# Altium footprint library Diode_SMD.PcbLib: 76 footprints (part 4 of 5)
Each footprint in its own frame and in the unit in brackets; x right, y up, seen from the top. Pads: shape width x height; smd on the part's side, far side on the other; paste and mask are expansions set on the pad; w line width, h text height; cw(c..) or ccw(c..) is an arc to the next point about the centre after c.
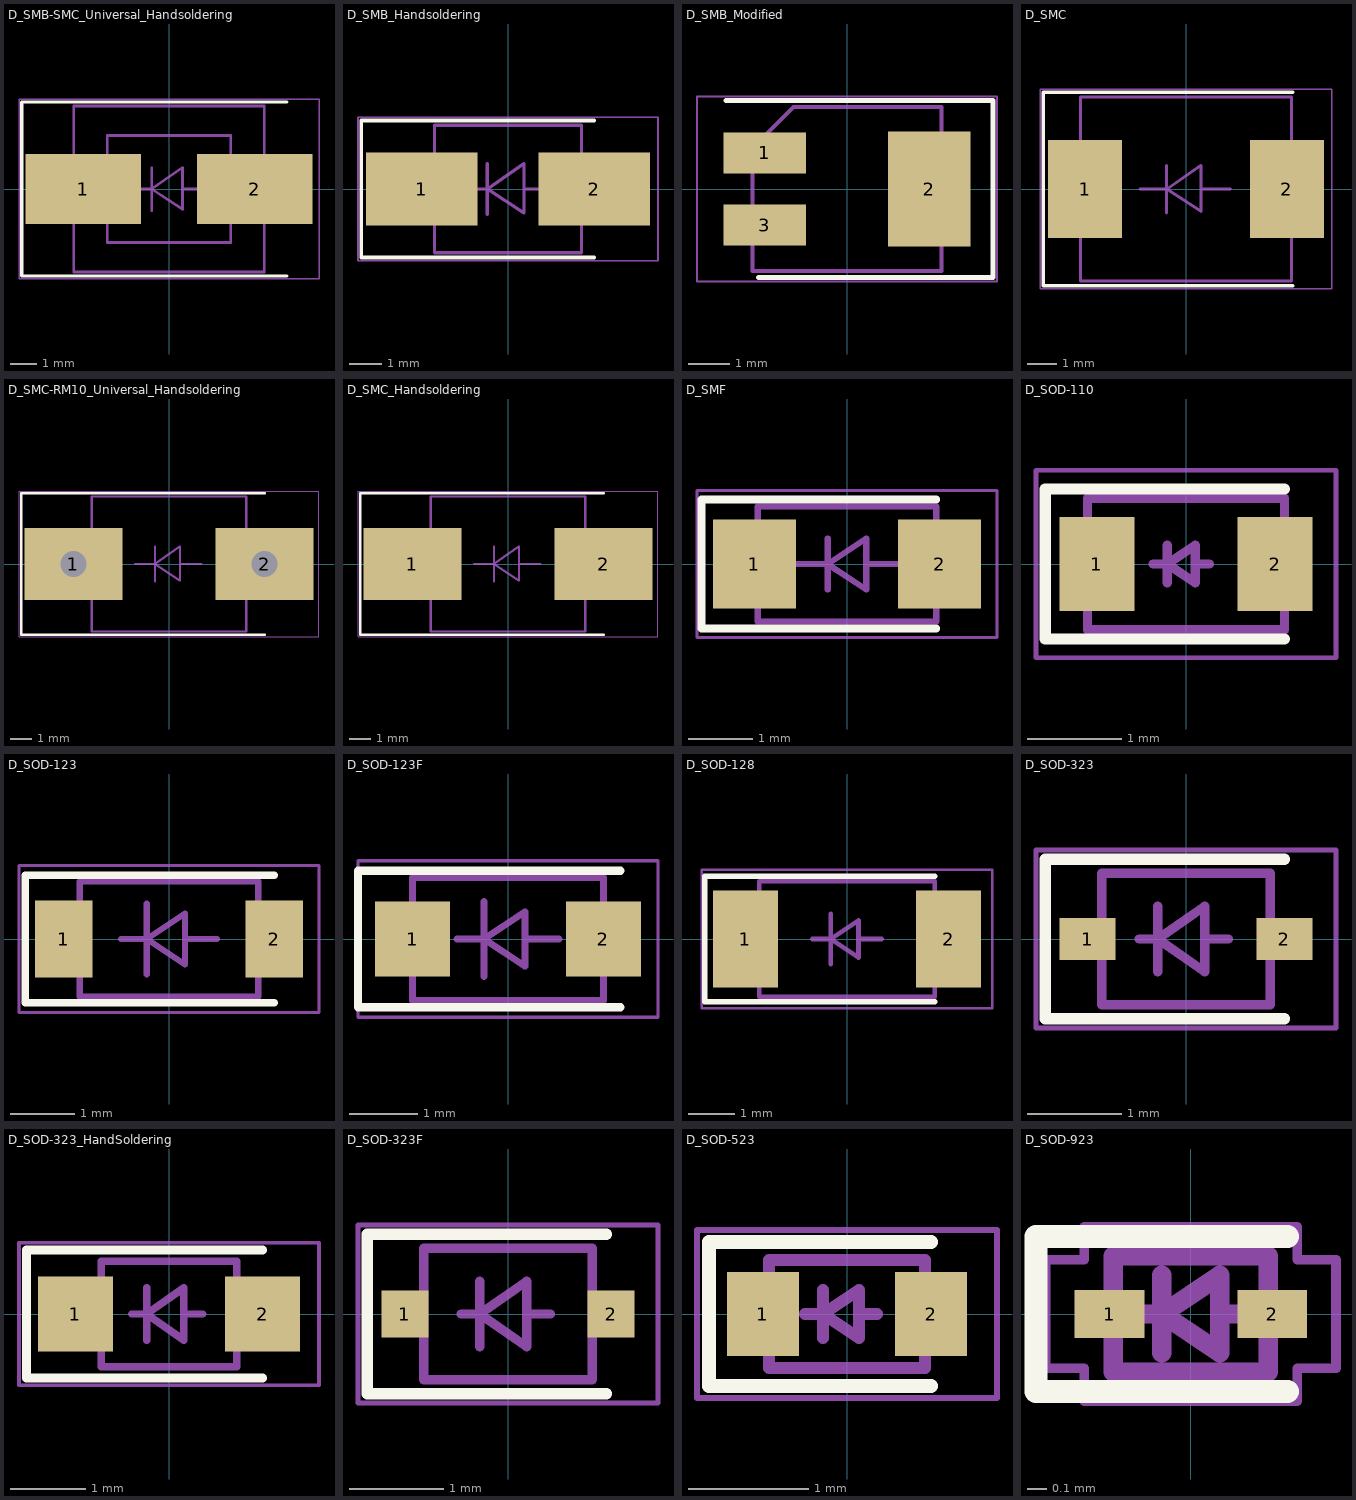
[diagram p3: the footprints below, top view; thin cyan lines are the x and y axes]

## D_SMB-SMC_Universal_Handsoldering [mm]
pads (2):
  rect 4.3x2.6 smd: 1(-3.2,0) 2(3.2,0)
F.SilkS:
  lines w0.12: 4.4,-3.25 -5.5,-3.25 -5.5,3.25 4.4,3.25
F.CrtYd:
  lines w0.05: -5.6,-3.35 -5.6,3.35 5.6,3.35 5.6,-3.35 -5.6,-3.35
F.Fab:
  lines w0.1: -1.551,-0.001 -0.649,-0.001 ; -0.649,-0.801 -0.649,0.799 ; 0.501,-0.001 1.499,-0.001 ; -0.649,-0.001 0.501,0.799 0.501,-0.75 -0.649,-0.001 ; -3.55,-3.1 3.55,-3.1 3.55,3.1 -3.55,3.1 -3.55,-3.1 ; -2.3,-2 -2.3,2 2.3,2 2.3,-2 -2.3,-2
  text "'.Designator'" at -4.047,3.26 h1
3D body "D_SMB.step": height 2.15, standoff 0, extent -2.65,-1.775 2.65,1.775

## D_SMB_Handsoldering [mm]
pads (2):
  rect 3.5x2.3 smd: 1(-2.7,0) 2(2.7,0)
F.SilkS:
  lines w0.12: 2.7,-2.15 -4.6,-2.15 -4.6,2.15 2.7,2.15
F.CrtYd:
  lines w0.05: -4.7,-2.25 -4.7,2.25 4.7,2.25 4.7,-2.25 -4.7,-2.25
F.Fab:
  lines w0.1: -1.551,-0.001 -0.649,-0.001 ; -0.649,-0.801 -0.649,0.799 ; 0.501,-0.001 1.499,-0.001 ; -0.649,-0.001 0.501,-0.75 0.501,0.799 -0.649,-0.001 ; -2.3,-2 -2.3,2 2.3,2 2.3,-2 -2.3,-2
  text "'.Designator'" at -4.047,2.16 h1
3D body "D_SMB.step": height 2.15, standoff 0, extent -2.65,-1.775 2.65,1.775

## D_SMB_Modified [mm]
pads (3):
  rect 2x1 smd: 1(-2,0.88) 3(-2,-0.88)
  rect 2x2.8 smd: 2(2,0)
F.SilkS:
  lines w0.12: -2.95,2.15 3.55,2.15 3.55,-2.15 -2.15,-2.15
F.CrtYd:
  lines w0.05: -3.65,-2.25 -3.65,2.25 3.65,2.25 3.65,-2.25 -3.65,-2.25
F.Fab:
  lines w0.1: -2.3,-2 2.3,-2 2.3,2 -1.3,2 -2.3,1 -2.3,-2
  text "'.Designator'" at -4.047,-0.84 h1
3D body "D_SMB.step": height 2.15, standoff 0, extent -2.65,-1.775 2.65,1.775

## D_SMC [mm]
pads (2):
  rect 2.5x3.3 smd: 1(-3.4,0) 2(3.4,0)
F.SilkS:
  lines w0.12: 3.6,-3.25 -4.8,-3.25 -4.8,3.25 3.6,3.25
F.CrtYd:
  lines w0.05: -4.9,-3.35 4.9,-3.35 4.9,3.35 -4.9,3.35 -4.9,-3.35
F.Fab:
  lines w0.1: -1.551,-0.001 -0.649,-0.001 ; -0.649,-0.801 -0.649,0.799 ; 0.501,-0.001 1.499,-0.001 ; -0.649,-0.001 0.501,-0.75 0.501,0.799 -0.649,-0.001 ; -3.55,-3.1 3.55,-3.1 3.55,3.1 -3.55,3.1 -3.55,-3.1
  text "'.Designator'" at -4.047,1.06 h1
3D body "D_SMC.step": height 2.31, standoff 0, extent -4,-2.95 4,2.95

## D_SMC-RM10_Universal_Handsoldering [mm]
pads (2):
  rect 4.5x3.3 hole 1.2: 1(-4.4,0) 2(4.4,0)
F.SilkS:
  lines w0.12: 4.4,-3.25 -6.8,-3.25 -6.8,3.25 4.4,3.25
F.CrtYd:
  lines w0.05: -6.9,-3.35 6.9,-3.35 6.9,3.35 -6.9,3.35 -6.9,-3.35
F.Fab:
  lines w0.1: -1.551,-0.001 -0.649,-0.001 ; -0.649,-0.801 -0.649,0.799 ; 0.501,-0.001 1.499,-0.001 ; -0.649,-0.001 0.501,-0.75 0.501,0.799 -0.649,-0.001 ; -3.55,-3.1 3.55,-3.1 3.55,3.1 -3.55,3.1 -3.55,-3.1
  text "'.Designator'" at -4.047,0.86 h1
3D body "D_SMC.step": height 2.31, standoff 0, extent -4,-2.95 4,2.95

## D_SMC_Handsoldering [mm]
pads (2):
  rect 4.5x3.3 smd: 1(-4.4,0) 2(4.4,0)
F.SilkS:
  lines w0.12: 4.4,-3.25 -6.8,-3.25 -6.8,3.25 4.4,3.25
F.CrtYd:
  lines w0.05: -6.9,-3.35 6.9,-3.35 6.9,3.35 -6.9,3.35 -6.9,-3.35
F.Fab:
  lines w0.1: -1.551,-0.001 -0.649,-0.001 ; -0.649,-0.801 -0.649,0.799 ; 0.501,-0.001 1.499,-0.001 ; -0.649,-0.001 0.501,0.799 0.501,-0.75 -0.649,-0.001 ; -3.55,-3.1 3.55,-3.1 3.55,3.1 -3.55,3.1 -3.55,-3.1
  text "'.Designator'" at -4.047,0.66 h1
3D body "D_SMC.step": height 2.31, standoff 0, extent -4,-2.95 4,2.95

## D_SMF [mm]
pads (2):
  rect 1.3x1.4 smd: 1(-1.45,0) 2(1.45,0)
F.SilkS:
  lines w0.12: 1.4,-1.01 -2.28,-1.01 -2.28,1.01 1.4,1.01
F.CrtYd:
  lines w0.05: -2.35,-1.15 -2.35,1.15 2.35,1.15 2.35,-1.15 -2.35,-1.15
F.Fab:
  lines w0.1: -0.9,0 -0.3,0 0.3,0.4 0.3,-0.4 -0.3,-0.001 ; -0.3,-0.4 -0.3,0.4 ; 0.3,0 0.9,0 ; -1.4,-0.9 -1.4,0.9 1.4,0.9 1.4,-0.9 -1.4,-0.9
  text "'.Designator'" at -4.047,1.16 h1
3D body "D_SMF.step": height 1, standoff 0, extent -1.9,-0.9 1.9,0.9

## D_SOD-110 [mm]
pads (2):
  rect 0.8x1 smd: 1(-0.95,0) 2(0.95,0)
F.SilkS:
  lines w0.12: 1.05,-0.8 -1.5,-0.8 -1.5,0.8 1.05,0.8
F.CrtYd:
  lines w0.05: -1.6,-1 -1.6,1 1.6,1 1.6,-1 -1.6,-1
F.Fab:
  lines w0.1: -0.35,0 -0.2,0 ; -0.2,-0.2 -0.2,0.2 ; 0.1,0 0.25,0 ; -0.2,0 0.1,0.2 0.1,-0.2 -0.2,0 ; -1.05,-0.7 1.05,-0.7 1.05,0.7 -1.05,0.7 -1.05,-0.7
  text "'.Designator'" at -4.047,0.86 h1
3D body "D_SOD-110.step": height 1.8, standoff 0, extent -1,-0.575 1,0.575

## D_SOD-123 [mm]
pads (2):
  rect 0.9x1.2 smd: 1(-1.65,0) 2(1.65,0)
F.SilkS:
  lines w0.12: 1.65,-1 -2.25,-1 -2.25,1 1.65,1
F.CrtYd:
  lines w0.05: -2.35,-1.15 2.35,-1.15 2.35,1.15 -2.35,1.15 -2.35,-1.15
F.Fab:
  lines w0.1: -0.75,0 -0.35,0 ; -0.35,-0.55 -0.35,0 ; -0.35,0.55 -0.35,0 ; 0.25,0 0.75,0 ; -0.35,0 0.25,0.4 0.25,-0.4 -0.35,0 ; -1.4,-0.9 1.4,-0.9 1.4,0.9 -1.4,0.9 -1.4,-0.9
  text "'.Designator'" at -4.047,1.16 h1
3D body "D_SOD-123.step": height 1.25, standoff 0, extent -1.9,-0.8 1.9,0.8

## D_SOD-123F [mm]
pads (2):
  rect 1.1x1.1 smd: 1(-1.4,0) 2(1.4,0)
F.SilkS:
  lines w0.12: 1.65,-1 -2.2,-1 -2.2,1 1.65,1
F.CrtYd:
  lines w0.05: -2.2,-1.15 -2.2,1.15 2.2,1.15 2.2,-1.15 -2.2,-1.15
F.Fab:
  lines w0.1: -0.75,0 -0.35,0 ; -0.35,-0.55 -0.35,0 ; -0.35,0.55 -0.35,0 ; 0.25,0 0.75,0 ; -0.35,0 0.25,0.4 0.25,-0.4 -0.35,0 ; -1.4,-0.9 1.4,-0.9 1.4,0.9 -1.4,0.9 -1.4,-0.9
  text "'.Designator'" at -4.174,1.065 h1
3D body "D_SOD-123F.step": height 1.1, standoff 0, extent -1.75,-0.8 1.75,0.8

## D_SOD-128 [mm]
pads (2):
  rect 1.4x2.1 smd: 1(-2.2,0) 2(2.2,0)
F.SilkS:
  lines w0.12: 1.9,-1.36 -3.08,-1.36 -3.08,1.36 1.9,1.36
F.CrtYd:
  lines w0.05: -3.15,-1.5 -3.15,1.5 3.15,1.5 3.15,-1.5 -3.15,-1.5
F.Fab:
  lines w0.1: -0.75,0 -0.35,0 ; -0.35,-0.55 -0.35,0 ; -0.35,0.55 -0.35,0 ; 0.25,0 0.75,0 ; -0.35,0 0.25,0.4 0.25,-0.4 -0.35,0 ; -1.9,-1.25 -1.9,1.25 1.9,1.25 1.9,-1.25 -1.9,-1.25
  text "'.Designator'" at -4.047,1.16 h1

## D_SOD-323 [mm]
pads (2):
  rect 0.6x0.45 smd: 1(-1.05,0) 2(1.05,0)
F.SilkS:
  lines w0.12: 1.05,-0.85 -1.5,-0.85 -1.5,0.85 1.05,0.85
F.CrtYd:
  lines w0.05: -1.6,-0.95 -1.6,0.95 1.6,0.95 1.6,-0.95 -1.6,-0.95
F.Fab:
  lines w0.1: -0.5,0 -0.3,0 ; -0.3,-0.35 -0.3,0.35 ; 0.2,0 0.45,0 ; -0.3,0 0.2,-0.35 0.2,0.35 -0.3,0 ; -0.9,-0.7 -0.9,0.7 0.9,0.7 0.9,-0.7 -0.9,-0.7
  text "'.Designator'" at -4.047,1.01 h1
3D body "D_SOD-323.step": height 1.1, standoff 0, extent -1.25,-0.625 1.25,0.625

## D_SOD-323_HandSoldering [mm]
pads (2):
  rect 1x1 smd: 1(-1.25,0) 2(1.25,0)
F.SilkS:
  lines w0.12: 1.25,-0.85 -1.9,-0.85 -1.9,0.85 1.25,0.85
F.CrtYd:
  lines w0.05: -2,-0.95 -2,0.95 2,0.95 2,-0.95 -2,-0.95
F.Fab:
  lines w0.1: -0.5,0 -0.3,0 ; -0.3,-0.35 -0.3,0.35 ; 0.2,0 0.45,0 ; -0.3,0 0.2,0.35 0.2,-0.35 -0.3,0 ; -0.9,-0.7 0.9,-0.7 0.9,0.7 -0.9,0.7 -0.9,-0.7
  text "'.Designator'" at -4.047,1.01 h1
3D body "D_SOD-323.step": height 1.1, standoff 0, extent -1.25,-0.625 1.25,0.625

## D_SOD-323F [mm]
pads (2):
  rect 0.5x0.5 smd: 1(-1.1,0) 2(1.1,0)
F.SilkS:
  lines w0.12: 1.05,-0.85 -1.5,-0.85 -1.5,0.85 1.05,0.85
F.CrtYd:
  lines w0.05: -1.6,-0.95 1.6,-0.95 1.6,0.95 -1.6,0.95 -1.6,-0.95
F.Fab:
  lines w0.1: -0.5,0 -0.3,0 ; -0.3,-0.35 -0.3,0.35 ; 0.2,0 0.45,0 ; -0.3,0 0.2,-0.35 0.2,0.35 -0.3,0 ; -0.9,-0.7 0.9,-0.7 0.9,0.7 -0.9,0.7 -0.9,-0.7
  text "'.Designator'" at -4.047,1.01 h1
3D body "D_SOD-323F.step": height 0.73, standoff 0, extent -1.25,-0.625 1.25,0.625

## D_SOD-523 [mm]
pads (2):
  rect 0.6x0.7 smd: 1(-0.7,0) 2(0.7,0)
F.SilkS:
  lines w0.12: 0.7,-0.6 -1.15,-0.6 -1.15,0.6 0.7,0.6
F.CrtYd:
  lines w0.05: -1.25,-0.7 -1.25,0.7 1.25,0.7 1.25,-0.7 -1.25,-0.7
F.Fab:
  lines w0.1: -0.35,0 -0.2,0 ; -0.2,-0.2 -0.2,0.2 ; 0.1,0 0.25,0 ; -0.2,0 0.1,0.2 0.1,-0.2 -0.2,0 ; -0.65,-0.45 0.65,-0.45 0.65,0.45 -0.65,0.45 -0.65,-0.45
  text "'.Designator'" at -4.047,0.46 h1
3D body "D_SOD-523.step": height 0.63, standoff 0, extent -0.8,-0.4 0.8,0.4

## D_SOD-923 [mm]
pads (2):
  rect 0.36x0.25 smd: 1(-0.42,0) 2(0.42,0)
F.SilkS:
  lines w0.12: 0.5,-0.4 -0.8,-0.4 -0.8,0.4 0.5,0.4
F.CrtYd:
  lines w0.05: -0.75,-0.28 -0.55,-0.28 -0.55,-0.45 0.55,-0.45 0.55,-0.28 0.75,-0.28 0.75,0.28 0.55,0.28 0.55,0.45 -0.55,0.45 -0.55,0.28 -0.75,0.28 -0.75,-0.28
F.Fab:
  lines w0.1: -0.25,0 -0.15,0 ; -0.15,-0.2 -0.15,0.2 ; 0.15,0 0.25,0 ; -0.15,0 0.15,0.2 0.15,-0.2 -0.15,0 ; -0.4,-0.3 0.4,-0.3 0.4,0.3 -0.4,0.3 -0.4,-0.3
  text "'.Designator'" at -4.047,0.36 h1
3D body "D_SOD-923.step": height 0.37, standoff 0, extent -0.5,-0.3 0.5,0.3